# Altium schematic symbol library 686 1xx 141 22.SchLib: 16 symbols
Pins are listed as number, name and electrical type; pins without a type are passive.

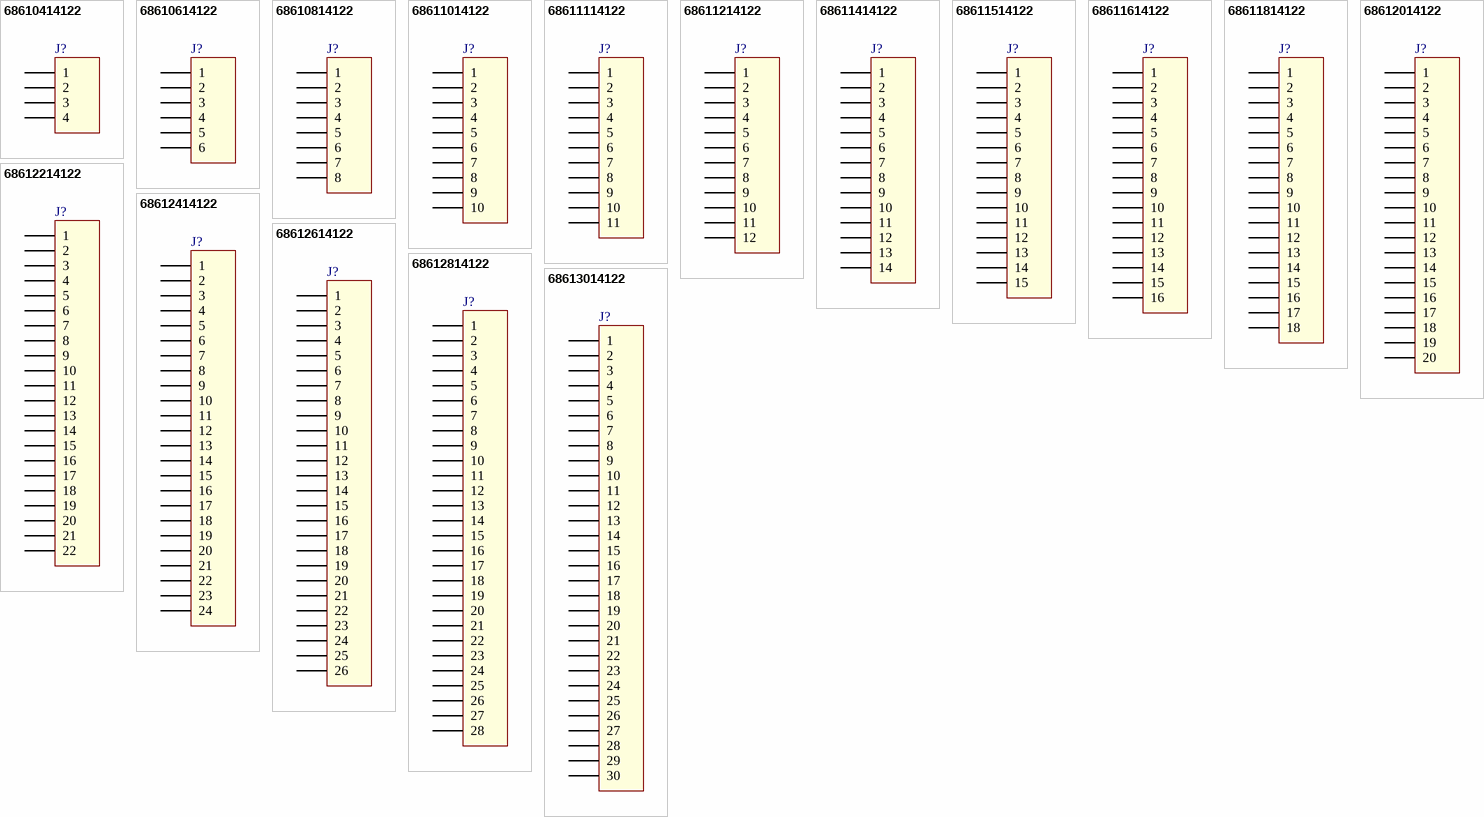
[diagram p0: symbols 68610414122 to 68613014122]

## 68610414122
designator J?
1.00 mm SMT ZIF Horizontal Top Contact WR-FPC, 4 pins; Part Number: 68610414122; Pitch: 1 mm; Pin Number: 4; ComponentLink1Description: Manufacturer; ComponentLink1URL: http://www.we-online.de; ComponentLink2Description: Datasheet; ComponentLink2URL: http://katalog.we-online.com/em/datasheet/6861xx14122.pdf; Published Date: April 2017; Publisher: Wurth Elektronik
footprint 68610414122 (1.00 mm SMT ZIF Horizontal Top Contact, 4p)
pins: 1, 2, 3, 4

## 68610614122
designator J?
1.00 mm SMT ZIF Horizontal Top Contact WR-FPC, 6 pins; Part Number: 68610614122; Pitch: 1 mm; Pin Number: 6; ComponentLink1Description: Manufacturer; ComponentLink1URL: http://www.we-online.de; ComponentLink2Description: Datasheet; ComponentLink2URL: http://katalog.we-online.com/em/datasheet/6861xx14122.pdf; Published Date: April 2017; Publisher: Wurth Elektronik
footprint 68610614122 (1.00 mm SMT ZIF Horizontal Top Contact, 6p)
pins: 1, 2, 3, 4, 5, 6

## 68610814122
designator J?
1.00 mm SMT ZIF Horizontal Top Contact WR-FPC, 8 pins; Part Number: 68610814122; Pitch: 1 mm; Pin Number: 8; ComponentLink1Description: Manufacturer; ComponentLink1URL: http://www.we-online.de; ComponentLink2Description: Datasheet; ComponentLink2URL: http://katalog.we-online.com/em/datasheet/6861xx14122.pdf; Published Date: April 2017; Publisher: Wurth Elektronik
footprint 68610814122 (1.00 mm SMT ZIF Horizontal Top Contact, 8p)
pins: 1, 2, 3, 4, 5, 6, 7, 8

## 68611014122
designator J?
1.00 mm SMT ZIF Horizontal Top Contact WR-FPC, 10 pins; Part Number: 68611014122; Pitch: 1 mm; Pin Number: 10; ComponentLink1Description: Manufacturer; ComponentLink1URL: http://www.we-online.de; ComponentLink2Description: Datasheet; ComponentLink2URL: http://katalog.we-online.com/em/datasheet/6861xx14122.pdf; Published Date: April 2017; Publisher: Wurth Elektronik
footprint 68611014122 (1.00 mm SMT ZIF Horizontal Top Contact, 10p)
pins: 1, 2, 3, 4, 5, 6, 7, 8, 9, 10

## 68611114122
designator J?
1.00 mm SMT ZIF Horizontal Top Contact WR-FPC, 11 pins; Part Number: 68611114122; Pitch: 1 mm; Pin Number: 11; ComponentLink1Description: Manufacturer; ComponentLink1URL: http://www.we-online.de; ComponentLink2Description: Datasheet; ComponentLink2URL: http://katalog.we-online.com/em/datasheet/6861xx14122.pdf; Published Date: April 2017; Publisher: Wurth Elektronik
footprint 68611114122 (1.00 mm SMT ZIF Horizontal Top Contact, 11p)
pins: 1, 2, 3, 4, 5, 6, 7, 8, 9, 10, 11

## 68611214122
designator J?
1.00 mm SMT ZIF Horizontal Top Contact WR-FPC, 12 pins; Part Number: 68611214122; Pitch: 1 mm; Pin Number: 12; ComponentLink1Description: Manufacturer; ComponentLink1URL: http://www.we-online.de; ComponentLink2Description: Datasheet; ComponentLink2URL: http://katalog.we-online.com/em/datasheet/6861xx14122.pdf; Published Date: April 2017; Publisher: Wurth Elektronik
footprint 68611214122 (1.00 mm SMT ZIF Horizontal Top Contact, 12p)
pins: 1, 2, 3, 4, 5, 6, 7, 8, 9, 10, 11, 12

## 68611414122
designator J?
1.00 mm SMT ZIF Horizontal Top Contact WR-FPC, 14 pins; Part Number: 68611414122; Pitch: 1 mm; Pin Number: 14; ComponentLink1Description: Manufacturer; ComponentLink1URL: http://www.we-online.de; ComponentLink2Description: Datasheet; ComponentLink2URL: http://katalog.we-online.com/em/datasheet/6861xx14122.pdf; Published Date: April 2017; Publisher: Wurth Elektronik
footprint 68611414122 (1.00 mm SMT ZIF Horizontal Top Contact, 14p)
pins: 1, 2, 3, 4, 5, 6, 7, 8, 9, 10, 11, 12, 13, 14

## 68611514122
designator J?
1.00 mm SMT ZIF Horizontal Top Contact WR-FPC, 15 pins; Part Number: 68611514122; Pitch: 1 mm; Pin Number: 15; ComponentLink1Description: Manufacturer; ComponentLink1URL: http://www.we-online.de; ComponentLink2Description: Datasheet; ComponentLink2URL: http://katalog.we-online.com/em/datasheet/6861xx14122.pdf; Published Date: April 2017; Publisher: Wurth Elektronik
footprint 68611514122 (1.00 mm SMT ZIF Horizontal Top Contact, 15p)
pins: 1, 2, 3, 4, 5, 6, 7, 8, 9, 10, 11, 12, 13, 14, 15

## 68611614122
designator J?
1.00 mm SMT ZIF Horizontal Top Contact WR-FPC, 16 pins; Part Number: 68611614122; Pitch: 1 mm; Pin Number: 16; ComponentLink1Description: Manufacturer; ComponentLink1URL: http://www.we-online.de; ComponentLink2Description: Datasheet; ComponentLink2URL: http://katalog.we-online.com/em/datasheet/6861xx14122.pdf; Published Date: April 2017; Publisher: Wurth Elektronik
footprint 68611614122 (1.00 mm SMT ZIF Horizontal Top Contact, 16p)
pins: 1, 2, 3, 4, 5, 6, 7, 8, 9, 10, 11, 12, 13, 14, 15, 16

## 68611814122
designator J?
1.00 mm SMT ZIF Horizontal Top Contact WR-FPC, 18 pins; Part Number: 68611814122; Pitch: 1 mm; Pin Number: 18; ComponentLink1Description: Manufacturer; ComponentLink1URL: http://www.we-online.de; ComponentLink2Description: Datasheet; ComponentLink2URL: http://katalog.we-online.com/em/datasheet/6861xx14122.pdf; Published Date: April 2017; Publisher: Wurth Elektronik
footprint 68611814122 (1.00 mm SMT ZIF Horizontal Top Contact, 18p)
pins: 1, 2, 3, 4, 5, 6, 7, 8, 9, 10, 11, 12, 13, 14, 15, 16, 17, 18

## 68612014122
designator J?
1.00 mm SMT ZIF Horizontal Top Contact WR-FPC, 20 pins; Part Number: 68612014122; Pitch: 1 mm; Pin Number: 20; ComponentLink1Description: Manufacturer; ComponentLink1URL: http://www.we-online.de; ComponentLink2Description: Datasheet; ComponentLink2URL: http://katalog.we-online.com/em/datasheet/6861xx14122.pdf; Published Date: April 2017; Publisher: Wurth Elektronik
footprint 68612014122 (1.00 mm SMT ZIF Horizontal Top Contact, 20p)
pins: 1, 2, 3, 4, 5, 6, 7, 8, 9, 10, 11, 12, 13, 14, 15, 16, 17, 18, 19, 20

## 68612214122
designator J?
1.00 mm SMT ZIF Horizontal Top Contact WR-FPC, 22 pins; Part Number: 68612214122; Pitch: 1 mm; Pin Number: 22; ComponentLink1Description: Manufacturer; ComponentLink1URL: http://www.we-online.de; ComponentLink2Description: Datasheet; ComponentLink2URL: http://katalog.we-online.com/em/datasheet/6861xx14122.pdf; Published Date: April 2017; Publisher: Wurth Elektronik
footprint 68612214122 (1.00 mm SMT ZIF Horizontal Top Contact, 22p)
pins: 1, 2, 3, 4, 5, 6, 7, 8, 9, 10, 11, 12, 13, 14, 15, 16, 17, 18, 19, 20, 21, 22

## 68612414122
designator J?
1.00 mm SMT ZIF Horizontal Top Contact WR-FPC, 24 pins; Part Number: 68612414122; Pitch: 1 mm; Pin Number: 24; ComponentLink1Description: Manufacturer; ComponentLink1URL: http://www.we-online.de; ComponentLink2Description: Datasheet; ComponentLink2URL: http://katalog.we-online.com/em/datasheet/6861xx14122.pdf; Published Date: April 2017; Publisher: Wurth Elektronik
footprint 68612414122 (1.00 mm SMT ZIF Horizontal Top Contact, 24p)
pins: 1, 2, 3, 4, 5, 6, 7, 8, 9, 10, 11, 12, 13, 14, 15, 16, 17, 18, 19, 20, 21, 22, 23, 24

## 68612614122
designator J?
1.00 mm SMT ZIF Horizontal Top Contact WR-FPC, 26 pins; Part Number: 68612614122; Pitch: 1 mm; Pin Number: 26; ComponentLink1Description: Manufacturer; ComponentLink1URL: http://www.we-online.de; ComponentLink2Description: Datasheet; ComponentLink2URL: http://katalog.we-online.com/em/datasheet/6861xx14122.pdf; Published Date: April 2017; Publisher: Wurth Elektronik
footprint 68612614122 (1.00 mm SMT ZIF Horizontal Top Contact, 26p)
pins: 1, 2, 3, 4, 5, 6, 7, 8, 9, 10, 11, 12, 13, 14, 15, 16, 17, 18, 19, 20, 21, 22, 23, 24, 25, 26

## 68612814122
designator J?
1.00 mm SMT ZIF Horizontal Top Contact WR-FPC, 28 pins; Part Number: 68612814122; Pitch: 1 mm; Pin Number: 28; ComponentLink1Description: Manufacturer; ComponentLink1URL: http://www.we-online.de; ComponentLink2Description: Datasheet; ComponentLink2URL: http://katalog.we-online.com/em/datasheet/6861xx14122.pdf; Published Date: April 2017; Publisher: Wurth Elektronik
footprint 68612814122 (1.00 mm SMT ZIF Horizontal Top Contact, 28p)
pins: 1, 2, 3, 4, 5, 6, 7, 8, 9, 10, 11, 12, 13, 14, 15, 16, 17, 18, 19, 20, 21, 22, 23, 24, 25, 26, 27, 28

## 68613014122
designator J?
1.00 mm SMT ZIF Horizontal Top Contact WR-FPC, 30 pins; Part Number: 68613014122; Pitch: 1 mm; Pin Number: 30; ComponentLink1Description: Manufacturer; ComponentLink1URL: http://www.we-online.de; ComponentLink2Description: Datasheet; ComponentLink2URL: http://katalog.we-online.com/em/datasheet/6861xx14122.pdf; Published Date: April 2017; Publisher: Wurth Elektronik
footprint 68613014122 (1.00 mm SMT ZIF Horizontal Top Contact, 30p)
pins: 1, 2, 3, 4, 5, 6, 7, 8, 9, 10, 11, 12, 13, 14, 15, 16, 17, 18, 19, 20, 21, 22, 23, 24, 25, 26, 27, 28, 29, 30